# Altium integrated library BB Converter RMS to DC.IntLib: 1 symbol
Pins are listed as number, name and electrical type; pins without a type are passive.

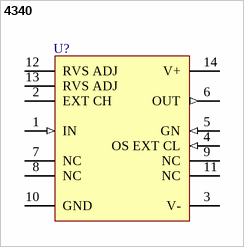
[diagram p0: symbol 4340]

## 4340
designator U?
True RMS-to-DC Converter; Note: Pins 7, 8, 9 and 11 are No internal Connection (NC) pins.; Published: 8-Jun-2000; LatestRevisionDate: 17-Jul-2002; LatestRevisionNote: Re-released for DXP Platform.; DatasheetVersion: Jul-1988; PackageVersion: 1994; PackageReference: ZZ107; Publisher: Altium Limited; PackageDescription: DIP; 14 Round Pins; Row Space 7.62 mm; Pitch 2.54 mm; ComponentLink1Description: Manufacturer Link; ComponentLink1URL: http://www.ti.com/
footprint ZZ107 (DIP; 14 Round Pins; Row Space 7.62 mm; Pitch 2.54 mm)
pins: 1 IN (in), 2 EXT CH, 3 V- (power), 4 OS EXT CL (in), 5 GN (in), 6 OUT (out), 7 NC, 8 NC, 9 NC, 10 GND (power), 11 NC, 12 RVS ADJ, 13 RVS ADJ, 14 V+ (power)